# Altium schematic symbol library Term,Header,2 Pin,Top,2.54mm.Schlib: 1 symbol
Pins are listed as number, name and electrical type; pins without a type are passive.

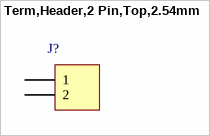
[diagram p0: symbol Term,Header,2 Pin,Top,2.54mm]

## Term,Header,2 Pin,Top,2.54mm
designator J?
pins: 1, 2